# Altium footprint library comm sub.PcbLib: 38 footprints (part 1 of 3)
Each footprint in its own frame and in the unit in brackets; x right, y up, seen from the top. Pads: shape width x height; smd on the part's side, far side on the other; paste and mask are expansions set on the pad; w line width, h text height; cw(c..) or ccw(c..) is an arc to the next point about the centre after c.
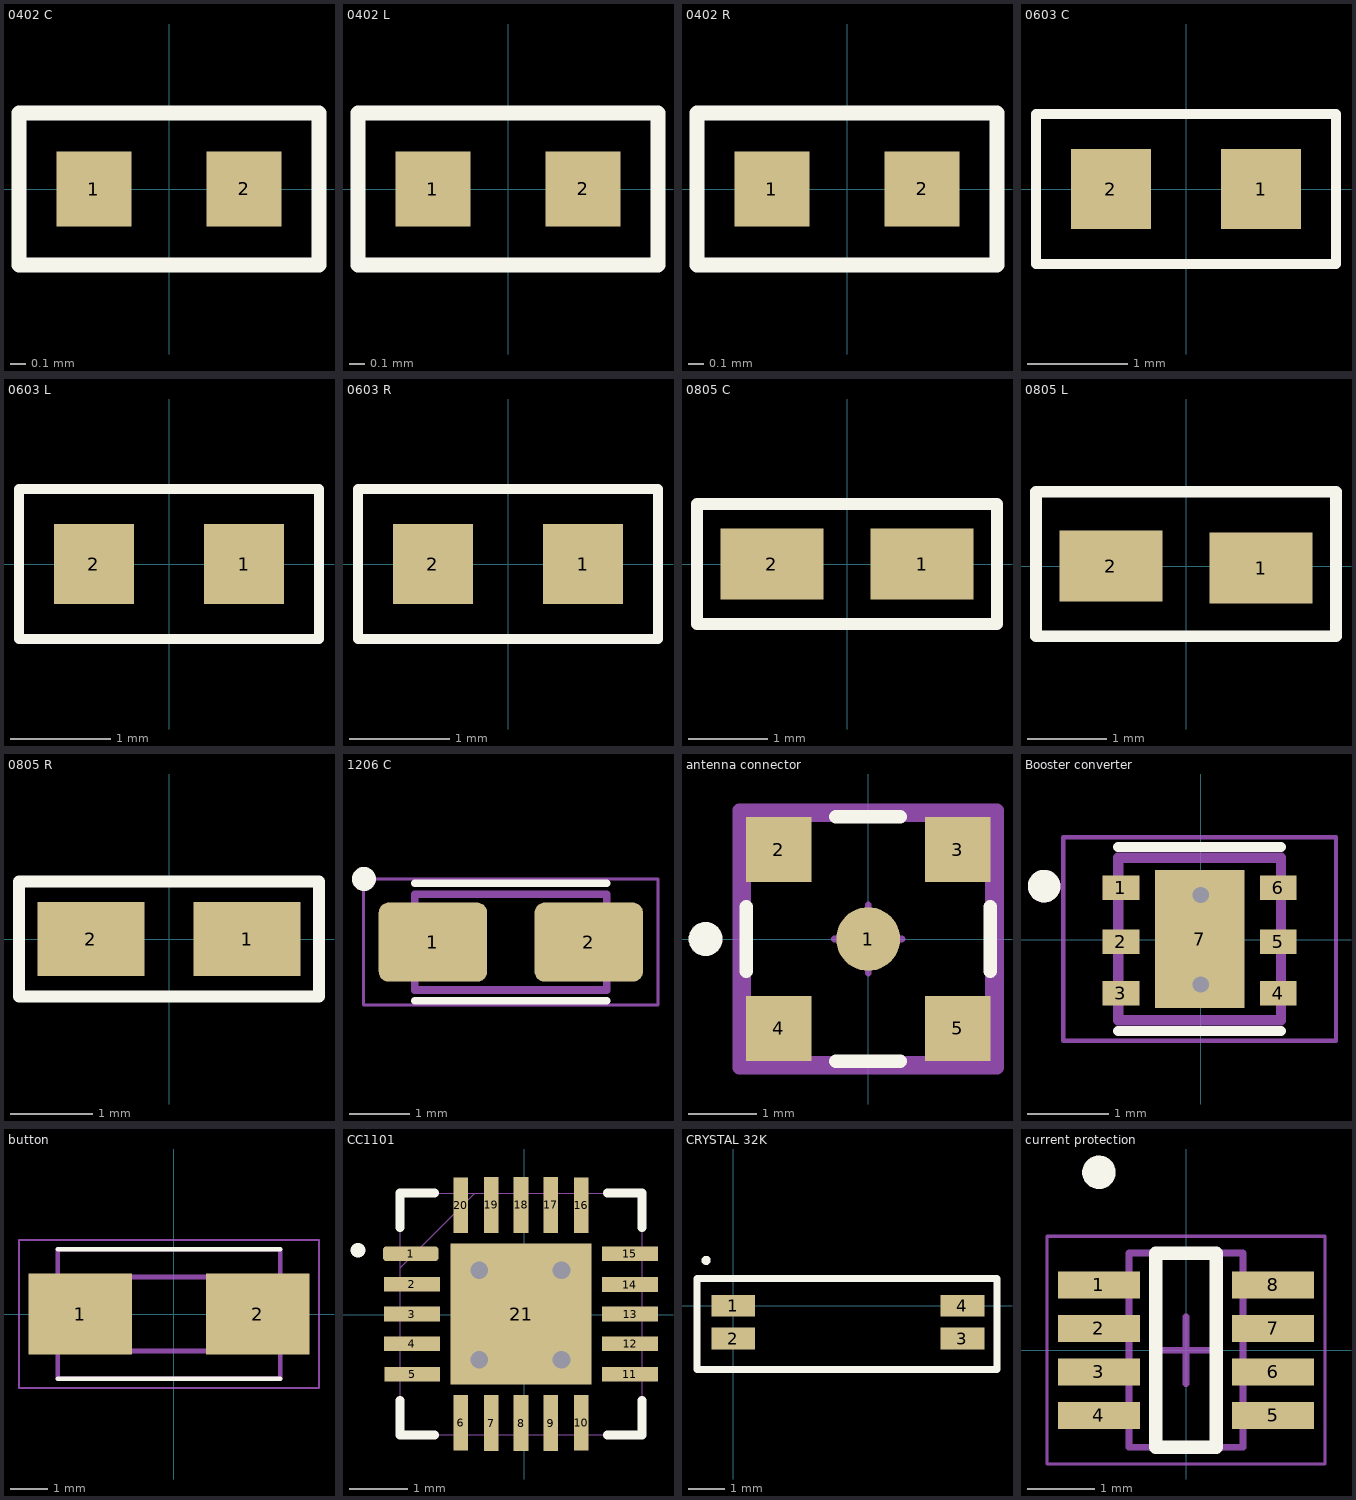
[diagram p0: the footprints below, top view; thin cyan lines are the x and y axes]

## 0402 C [mm]
pads (2):
  rect 0.5x0.5 smd: 1(-0.5,0) 2(0.5,0)
Top Overlay:
  lines w0.1: -1,-0.508 1,-0.508 1,0 1,0.508 -1,0.508 -1,-0.508
3D body "User Library-cap_0402.step": height 0.5, standoff 0, extent -0.5,-0.25 0.5,0.25

## 0402 L [mm]
pads (2):
  rect 0.5x0.5 smd: 1(-0.5,0) 2(0.5,0)
Top Overlay:
  lines w0.1: -1,-0.508 -1,0.508 1,0.508 1,-0.508 -1,-0.508
3D body "Coilcraft-0402ME.step": height 0.51, standoff -0.01, extent -0.51,-0.381 0.51,0.381

## 0402 R [mm]
pads (2):
  rect 0.5x0.5 smd: 1(-0.5,0) 2(0.5,0)
Top Overlay:
  lines w0.1: -1,-0.508 -1,0.508 1,0.508 1,0 1,-0.508 -1,-0.508
3D body "User Library-cap_0402.step": height 0.5, standoff 0, extent -0.5,-0.25 0.5,0.25

## 0603 C [mm]
pads (2):
  rect 0.8x0.8 smd: 1(0.75,0) 2(-0.75,0)
Top Overlay:
  lines w0.1: -1.5,-0.75 1.5,-0.75 1.5,0.75 -1.5,0.75 -1.5,-0.75
3D body "CircuitWorks-CAPACITOR 0603.step": height 0.88, standoff 0.02, extent -0.8,-0.43 0.8,0.43

## 0603 L [mm]
pads (2):
  rect 0.8x0.8 smd: 1(0.75,0) 2(-0.75,0)
Top Overlay:
  lines w0.1: -1.5,-0.75 -1.5,0.75 1.5,0.75 1.5,-0.75 -1.5,-0.75
3D body "Coilcraft-0603DC.STEP": height 0.86, standoff 0, extent -0.81,-0.365 0.81,0.365

## 0603 R [mm]
pads (2):
  rect 0.8x0.8 smd: 1(0.75,0) 2(-0.75,0)
Top Overlay:
  lines w0.1: -1.5,-0.75 -1.5,0.75 1.5,0.75 1.5,-0.75 -1.5,-0.75
3D body "CircuitWorks-CAPACITOR 0603.step": height 0.88, standoff 0.02, extent -0.8,-0.43 0.8,0.43

## 0805 C [mm]
pads (2):
  rect 1.3x0.9 smd: 1(0.95,0) 2(-0.95,0)
Top Overlay:
  lines w0.15: -1.9,-0.762 1.9,-0.762 1.9,0.762 -1.9,0.762 -1.9,-0.762
3D body "CircuitWorks-CAPACITOR 0805.STEP": height 1.25, standoff -0.06, extent -1,-0.379 1,0.381

## 0805 L [mm]
pads (2):
  rect 1.3x0.9 smd: 1(0.95,-0.025) 2(-0.95,0)
Top Overlay:
  lines w0.15: -1.9,-0.889 -1.9,0.94 1.9,0.94 1.9,-0.889 -1.9,-0.889
3D body "Coilcraft-0805HP.STEP": height 1.51, standoff -0.01, extent -1.105,-0.813 1.105,0.917

## 0805 R [mm]
pads (2):
  rect 1.3x0.9 smd: 1(0.95,0) 2(-0.95,0)
Top Overlay:
  lines w0.15: -1.825,-0.7 -1.825,0.7 1.825,0.7 1.825,-0.7 -1.825,-0.7
3D body "CircuitWorks-CAPACITOR 0805.STEP": height 1.27, standoff -0.04, extent -1,-0.379 1,0.381

## 1206 C [mm]
pads (2):
  rrect25% 1.81x1.32 smd: 1(-1057.1,65.722) 2(-1054.5,65.722)
Top Overlay:
  circle w0.2: c-1058.25,66.775 r0.1
  lines w0.127: -1057.4,64.742 -1054.2,64.742 ; -1057.4,66.702 -1054.2,66.702
Mechanical 13:
  lines w0.127: -1057.4,64.922 -1054.2,64.922 -1054.2,66.522 -1057.4,66.522 -1057.4,64.922
Mechanical 15:
  lines w0.05: -1058.255,64.672 -1058.255,66.772 -1053.345,66.772 -1053.345,64.672 -1058.255,64.672
3D body "TAJA_AVX.step": height 1.85, standoff 0, extent -1057.502,64.82 -1054.098,66.624

## antenna connector [mm]
pads (5):
  round 0.94 smd paste+0 mask+0: 1(0,0)
  rect 0.965x0.965 smd paste+0 mask+0: 2(-1.32,1.32) 3(1.32,1.32) 4(-1.32,-1.32) 5(1.32,-1.32)
Top Overlay:
  circle w0.25: c-2.4,0 r0.125
  lines w0.2: -1.8,-0.475 -1.8,0.475 ; -0.475,-1.8 0.475,-1.8 ; -0.475,1.8 0.475,1.8 ; 1.8,-0.475 1.8,0.475
Top Solder:
  lines w0.2: -1.9,-1.9 -1.9,1.9 1.9,1.9 1.9,-1.9 -1.9,-1.9
Mechanical 12:
  lines w0.15: -1.8,-1.8 -1.8,1.8 1.8,1.8 1.8,-1.8 -1.8,-1.8
Mechanical 15:
  lines w0.1: -0.5,0 0.5,0 ; 0,-0.5 0,0.5
  lines w0.2: -1.9,-1.9 -1.9,1.9 1.9,1.9 1.9,-1.9 -1.9,-1.9
3D body "734152063.stp": height 5, standoff -0.01, extent -1.725,-1.725 1.725,1.725

## Booster converter [mm]
height 0.7
pads (7):
  rect 0.45x0.3 smd: 1(-0.98,0.637) 2(-0.98,-0.023) 3(-0.98,-0.658) 4(0.95,-0.658) 5(0.95,-0.023) 6(0.95,0.637)
  rect 1.1x1.7 smd paste-2: 7(-0.014,0.009)
via 0,-0.55 diameter 0.5 hole 0.2
via 0,0.55 diameter 0.5 hole 0.2
Top Overlay:
  circle w0.2: c-1.924,0.659 r0.1
  lines w0.127: -1.014,-1.121 0.986,-1.121 ; -1.014,1.139 0.986,1.139
Top Paste:
  region: 0.302,-0.497 -0.33,-0.497 -0.33,0.515 0.302,0.515
Mechanical 13:
  circle w0.2: c-1.924,0.659 r0.1
  lines w0.127: -1.014,-0.991 0.986,-0.991 0.986,1.009 -1.014,1.009 -1.014,-0.991
Mechanical 15:
  lines w0.05: -1.689,-1.241 1.661,-1.241 1.661,1.259 -1.689,1.259 -1.689,-1.241
3D body "TPS610995DRVT.STEP": height 0.8, standoff 0, extent -0.999,-1.023 1.001,0.977

## button [mm]
pads (2):
  rect 2.8x2.2 smd: 1(-2.527,0) 2(2.273,0)
Top Overlay:
  lines w0.127: -3.127,-1.75 2.873,-1.75 ; -3.127,1.75 2.873,1.75
Mechanical 13:
  lines w0.127: -3.127,-1.75 -3.127,1.75 2.873,1.75 2.873,-1.75 -3.127,-1.75 ; -1.627,-1 -1.627,1 1.373,1 1.373,-1 -1.627,-1
Mechanical 15:
  lines w0.05: -4.177,-2 -4.177,2 3.923,2 3.923,-2 -4.177,-2
3D body "147873-1.stp": height 5.2, standoff 0, extent -3.527,-1.75 3.273,1.75

## CC1101 [mm]
pads (21):
  rrect50% 0.95x0.25 smd: 1(-1.928,1.041)
  rect 0.95x0.25 smd: 2(-1.907,0.524) 3(-1.907,0.016) 4(-1.907,-0.492) 5(-1.903,-1.009) 11(1.797,-1.009) 12(1.801,-0.492) 13(1.801,0.016) 14(1.797,0.516) 15(1.797,1.041)
  rect 0.25x0.95 smd: 6(-1.078,-1.834) 7(-0.561,-1.838) 8(-0.053,-1.838) 9(0.455,-1.838) 10(0.972,-1.834) 16(0.972,1.866) 17(0.455,1.87) 18(-0.053,1.87) 19(-0.561,1.87) 20(-1.078,1.866)
  rect 2.4x2.4 smd: 21(-0.053,0.016)
via -0.762,0.762 diameter 0.5 hole 0.3
via 0.635,0.762 diameter 0.5 hole 0.3
via 0.635,-0.762 diameter 0.5 hole 0.3
via -0.762,-0.762 diameter 0.5 hole 0.3
Top Overlay:
  lines w0.152: -2.11,-1.457 -2.11,-2.041 -1.526,-2.041 ; -2.11,1.489 -2.11,2.073 -1.526,2.073 ; 1.42,-2.041 2.004,-2.041 2.004,-1.457 ; 1.42,2.073 2.004,2.073 2.004,1.489
  lines w0.254: -2.825,1.1 -2.825,1.1
Mechanical 13:
  lines w0: -2.11,-1.127 -2.11,-0.822 ; -2.11,-0.644 -2.11,-0.34 ; -2.11,-0.136 -2.11,0.168 ; -2.11,0.372 -2.11,0.676 ; -2.11,0.803 -0.84,2.073 ; -2.11,0.854 -2.11,1.159 ; -1.196,-2.041 -0.891,-2.041 ; -1.196,2.073 -0.891,2.073 ; -0.713,-2.041 -0.409,-2.041 ; -0.713,2.073 -0.409,2.073 ; -0.205,-2.041 0.099,-2.041 ; -0.205,2.073 0.099,2.073 ; 0.303,-2.041 0.607,-2.041 ; 0.303,2.073 0.607,2.073 ; 0.785,-2.041 1.09,-2.041 ; 0.785,2.073 1.09,2.073 ; 2.004,-1.127 2.004,-0.822 ; 2.004,-0.644 2.004,-0.34 ; 2.004,-0.136 2.004,0.168 ; 2.004,0.372 2.004,0.676 ; 2.004,0.854 2.004,1.159 ; -2.11,-2.041 -2.11,2.073 2.004,2.073 2.004,-2.041 -2.11,-2.041
3D body "CC1101RGP.STEP": height 1, standoff 0, extent -2.053,-1.984 1.947,2.016

## CRYSTAL 32K [mm]
pads (4):
  rect 1.2x0.6 smd: 1(0,0) 2(0,-0.9) 3(6.3,-0.9) 4(6.3,0)
Top Overlay:
  circle w0.15: c-0.75,1.25 r0.05
  lines w0.2: -1,-1.75 -1,0.75 7.25,0.75 7.25,-1.75 -1,-1.75
3D body "User Library-CSYTAL-MC146.STEP": height 1.4, standoff 0, extent -0.35,-1.2 6.55,0.3

## current protection [mm] "SOIC, 8-Leads, Body 2.90x1.60mm, Pitch 1.27mm, IPC Medium Density"
height 1
pads (8):
  rect 1.22x0.4 smd: 1(-1.3,0.975) 2(-1.3,0.325) 3(-1.3,-0.325) 4(-1.3,-0.975) 5(1.3,-0.975) 6(1.3,-0.325) 7(1.3,0.325) 8(1.3,0.975)
Top Overlay:
  circle w0.25: c-1.3,2.655 r0.125
  lines w0.2: -0.45,-1.45 -0.45,1.45 0.45,1.45 0.45,-1.45 -0.45,-1.45
Assembly Top:
  lines w0.1: -0.85,-1.45 -0.85,1.45 0.85,1.45 0.85,-1.45 -0.85,-1.45
Courtyard Top:
  lines w0.05: -2.075,-1.7 -2.075,1.7 2.075,1.7 2.075,-1.7 -2.075,-1.7
  lines w0.1: -0.5,0 0.5,0 ; 0,-0.5 0,0.5
3D body "TSOT-23_TS8_LIT.step": height 0.99, standoff 0, extent -1.397,-1.448 1.397,1.448